# Altium schematic symbol library SCH - POWER - SWITCHMODE - TI TPS62736RGY.SchLib: 1 symbol
Pins are listed as number, name and electrical type; pins without a type are passive.

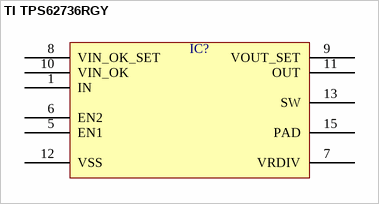
[diagram p0: symbol TI TPS62736RGY]

## TI TPS62736RGY
designator IC?  (value not drawn)
pins: 1 IN, 5 EN1, 6 EN2, 7 VRDIV, 8 VIN_OK_SET, 9 VOUT_SET, 10 VIN_OK, 11 OUT, 12 VSS, 13 SW, 15 PAD